# Altium footprint library ADS1263.PcbLib: 3 footprints
Each footprint in its own frame and in the unit in brackets; x right, y up, seen from the top. Pads: shape width x height; smd on the part's side, far side on the other; paste and mask are expansions set on the pad; w line width, h text height; cw(c..) or ccw(c..) is an arc to the next point about the centre after c.
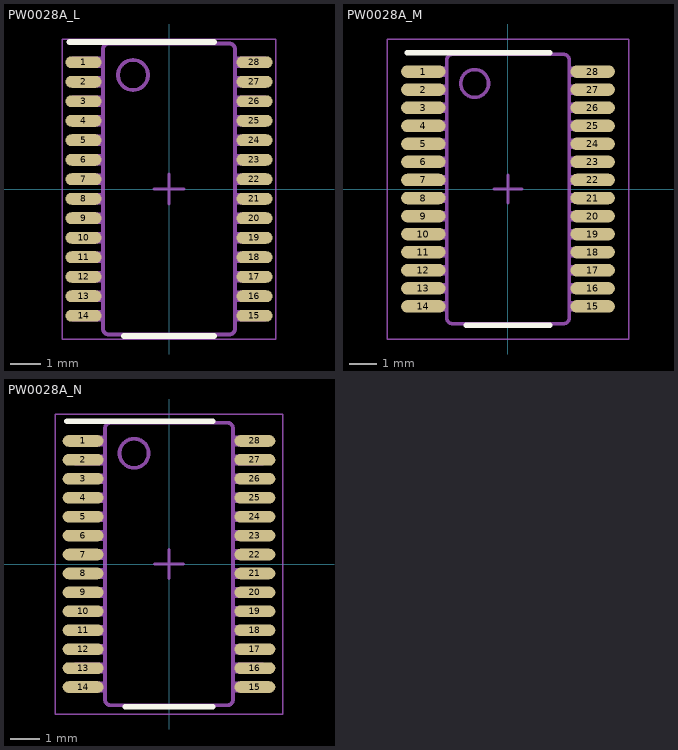
[diagram p0: the footprints below, top view; thin cyan lines are the x and y axes]

## PW0028A_L [mm]
pads (28):
  oval 1.2x0.4 smd paste+0 mask+0.051: 1(-2.85,4.225) 2(-2.85,3.575) 3(-2.85,2.925) 4(-2.85,2.275) 5(-2.85,1.625) 6(-2.85,0.975) 7(-2.85,0.325) 8(-2.85,-0.325) 9(-2.85,-0.975) 10(-2.85,-1.625) 11(-2.85,-2.275) 12(-2.85,-2.925) 13(-2.85,-3.575) 14(-2.85,-4.225) 15(2.85,-4.225) 16(2.85,-3.575) 17(2.85,-2.925) 18(2.85,-2.275) 19(2.85,-1.625) 20(2.85,-0.975) 21(2.85,-0.325) 22(2.85,0.325) 23(2.85,0.975) 24(2.85,1.625) 25(2.85,2.275) 26(2.85,2.925) 27(2.85,3.575) 28(2.85,4.225)
Top Overlay:
  lines w0.2: -3.325,4.9 1.5,4.9 ; -1.5,-4.9 1.5,-4.9
Mechanical 13:
  drawing of 346 lines, arcs and shapes, not listed
Mechanical 15:
  lines w0.05: -3.55,-5 -3.55,5 3.55,5 3.55,-5 -3.55,-5
  lines w0.1: -0.5,0 0.5,0 ; 0,-0.5 0,0.5
3D body "PW0028A.stp": height 1.13, standoff 0, extent -3.2,-4.85 3.2,4.85

## PW0028A_M [mm]
pads (28):
  oval 1.6x0.45 smd paste+0 mask+0.051: 1(-3.05,4.225) 2(-3.05,3.575) 3(-3.05,2.925) 4(-3.05,2.275) 5(-3.05,1.625) 6(-3.05,0.975) 7(-3.05,0.325) 8(-3.05,-0.325) 9(-3.05,-0.975) 10(-3.05,-1.625) 11(-3.05,-2.275) 12(-3.05,-2.925) 13(-3.05,-3.575) 14(-3.05,-4.225) 15(3.05,-4.225) 16(3.05,-3.575) 17(3.05,-2.925) 18(3.05,-2.275) 19(3.05,-1.625) 20(3.05,-0.975) 21(3.05,-0.325) 22(3.05,0.325) 23(3.05,0.975) 24(3.05,1.625) 25(3.05,2.275) 26(3.05,2.925) 27(3.05,3.575) 28(3.05,4.225)
Top Overlay:
  lines w0.2: -3.625,4.9 1.5,4.9 ; -1.5,-4.9 1.5,-4.9
Mechanical 13:
  drawing of 346 lines, arcs and shapes, not listed
Mechanical 15:
  lines w0.05: -4.35,-5.4 -4.35,5.4 4.35,5.4 4.35,-5.4 -4.35,-5.4
  lines w0.1: -0.5,0 0.5,0 ; 0,-0.5 0,0.5
3D body "PW0028A.stp": height 1.13, standoff 0, extent -3.2,-4.85 3.2,4.85

## PW0028A_N [mm]
pads (28):
  oval 1.4x0.4 smd paste+0 mask+0.051: 1(-2.95,4.225) 2(-2.95,3.575) 3(-2.95,2.925) 4(-2.95,2.275) 5(-2.95,1.625) 6(-2.95,0.975) 7(-2.95,0.325) 8(-2.95,-0.325) 9(-2.95,-0.975) 10(-2.95,-1.625) 11(-2.95,-2.275) 12(-2.95,-2.925) 13(-2.95,-3.575) 14(-2.95,-4.225) 15(2.95,-4.225) 16(2.95,-3.575) 17(2.95,-2.925) 18(2.95,-2.275) 19(2.95,-1.625) 20(2.95,-0.975) 21(2.95,-0.325) 22(2.95,0.325) 23(2.95,0.975) 24(2.95,1.625) 25(2.95,2.275) 26(2.95,2.925) 27(2.95,3.575) 28(2.95,4.225)
Top Overlay:
  lines w0.2: -3.5,4.9 1.5,4.9 ; -1.5,-4.9 1.5,-4.9
Mechanical 13:
  drawing of 346 lines, arcs and shapes, not listed
Mechanical 15:
  lines w0.05: -3.9,-5.15 3.9,-5.15 3.9,5.15 -3.9,5.15 -3.9,-5.15
  lines w0.1: -0.5,0 0.5,0 ; 0,-0.5 0,0.5
3D body "PW0028A.stp": height 1.13, standoff 0, extent -3.2,-4.85 3.2,4.85